# EAGLE library part ENCODER-RGB-SWITCH (library SparkFun-Switches)
Illuminated Rotary Encoder w/ RGB LED and select switch Encoders rotate similarly to potentiometers, but they’re different from potentiometers in that an encoder has full rotation without limits. They output gray code so that you can tell how much and in which direction the encoder has been turned. This encoder includes an RGB LED and a push-down select switch. Part #: Top Up EC12PLRGBSDVBF-D <http://top-up.so-buy.com/front/bin/ptdetail.phtml?Part=EC12PLRGBSDVBF-D> SparkFun Products Rotary Encoder - Illuminated (RGB) <https://www.sparkfun.com/products/10982> (COM-10982)
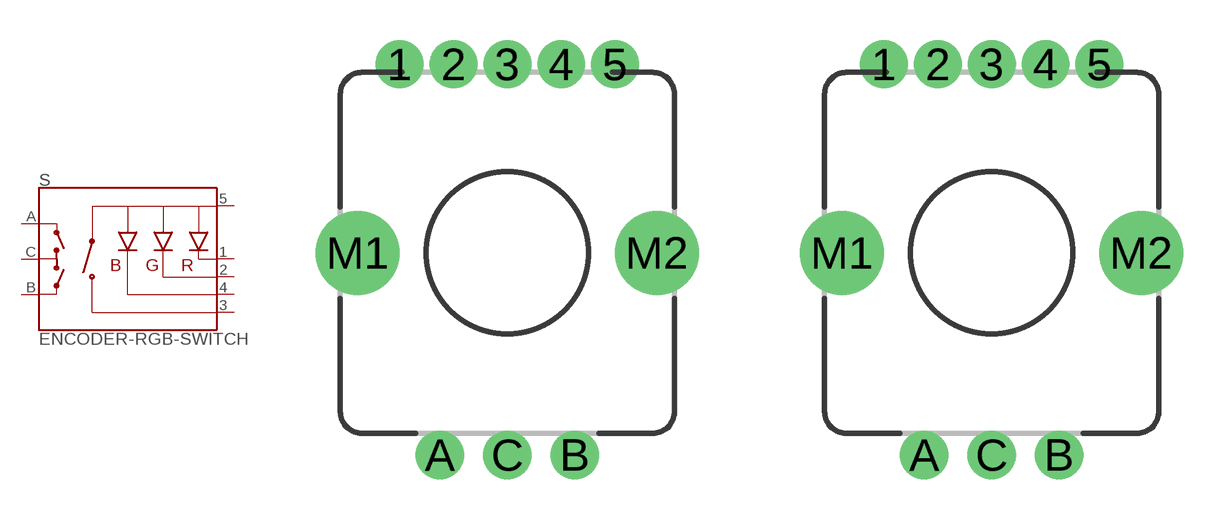
[diagram p5: symbol with the pads of ENCODER_LED_3; footprints ENCODER_LED_3, ENCODER_LED_3_KIT]

Designator prefix S

## ENCODER-RGB-SWITCH-WITH_NUT (PROD_ID: RES-15425; SF_SKU: COM-15141)  [ENCODER_LED_3]
1  -R  pas
2  -G  pas
3  SW  pas
4  -B  pas
5  +  pas
A  A
B  B
C  C

## ENCODER-RGB-SWITCHKIT (PROD_ID: RES-10859; SF_SKU: COM-10982)  [ENCODER_LED_3_KIT]
Pads as for ENCODER_LED_3

## ENCODER-RGB-SWITCH-NO_NUT (PROD_ID: RES-14168)  [ENCODER_LED_3]
Pads as for ENCODER_LED_3

## Footprint ENCODER_LED_3 (pad centres in mm)
Illuminated Rotary Encoder w/ RGB LED and select switch Encoders rotate similarly to potentiometers, but they’re different from potentiometers in that an encoder has full rotation without limits. They output gray code so that you can tell how much and in which direction the encoder has been turned. This encoder includes an RGB LED and a push-down select switch. Dimensional Drawing <http://cdn.sparkfun.com/datasheets/Components/Switches/EC12PLRGBSDVBF-D-25K-24-24C-6108-6H.pdf>
drill 1.1 pad 1.778: 1 -4,7; 2 -2,7; 3 0,7; 4 2,7; 5 4,7
drill 1.1 pad 1.8: A -2.5,-7.5; B 2.5,-7.5; C 0,-7.5
drill 2.1: M1 -5.55,0; M2 5.55,0

## Footprint ENCODER_LED_3_KIT (pad centres in mm)
Illuminated Rotary Encoder w/ RGB LED and select switch Encoders rotate similarly to potentiometers, but they’re different from potentiometers in that an encoder has full rotation without limits. They output gray code so that you can tell how much and in which direction the encoder has been turned. This encoder includes an RGB LED and a push-down select switch. Warning: This is the KIT version of this package. This package has a smaller diameter top stop mask, which doesn't cover the diameter of the pad. This means only the bottom side of the pads' copper will be exposed. You'll only be able to solder to the bottom side. Dimensional Drawing <http://cdn.sparkfun.com/datasheets/Components/Switches/EC12PLRGBSDVBF-D-25K-24-24C-6108-6H.pdf>
drill 1.1 pad 1.778: 1 -4,7; 2 -2,7; 3 0,7; 4 2,7; 5 4,7
drill 1.1 pad 1.8: A -2.5,-7.5; B 2.5,-7.5; C 0,-7.5
drill 2.1: M1 -5.55,0; M2 5.55,0